# Altium footprint library XS library.PcbLib: 379 footprints (part 15 of 24)
Each footprint in its own frame and in the unit in brackets; x right, y up, seen from the top. Pads: shape width x height; smd on the part's side, far side on the other; paste and mask are expansions set on the pad; w line width, h text height; cw(c..) or ccw(c..) is an arc to the next point about the centre after c.
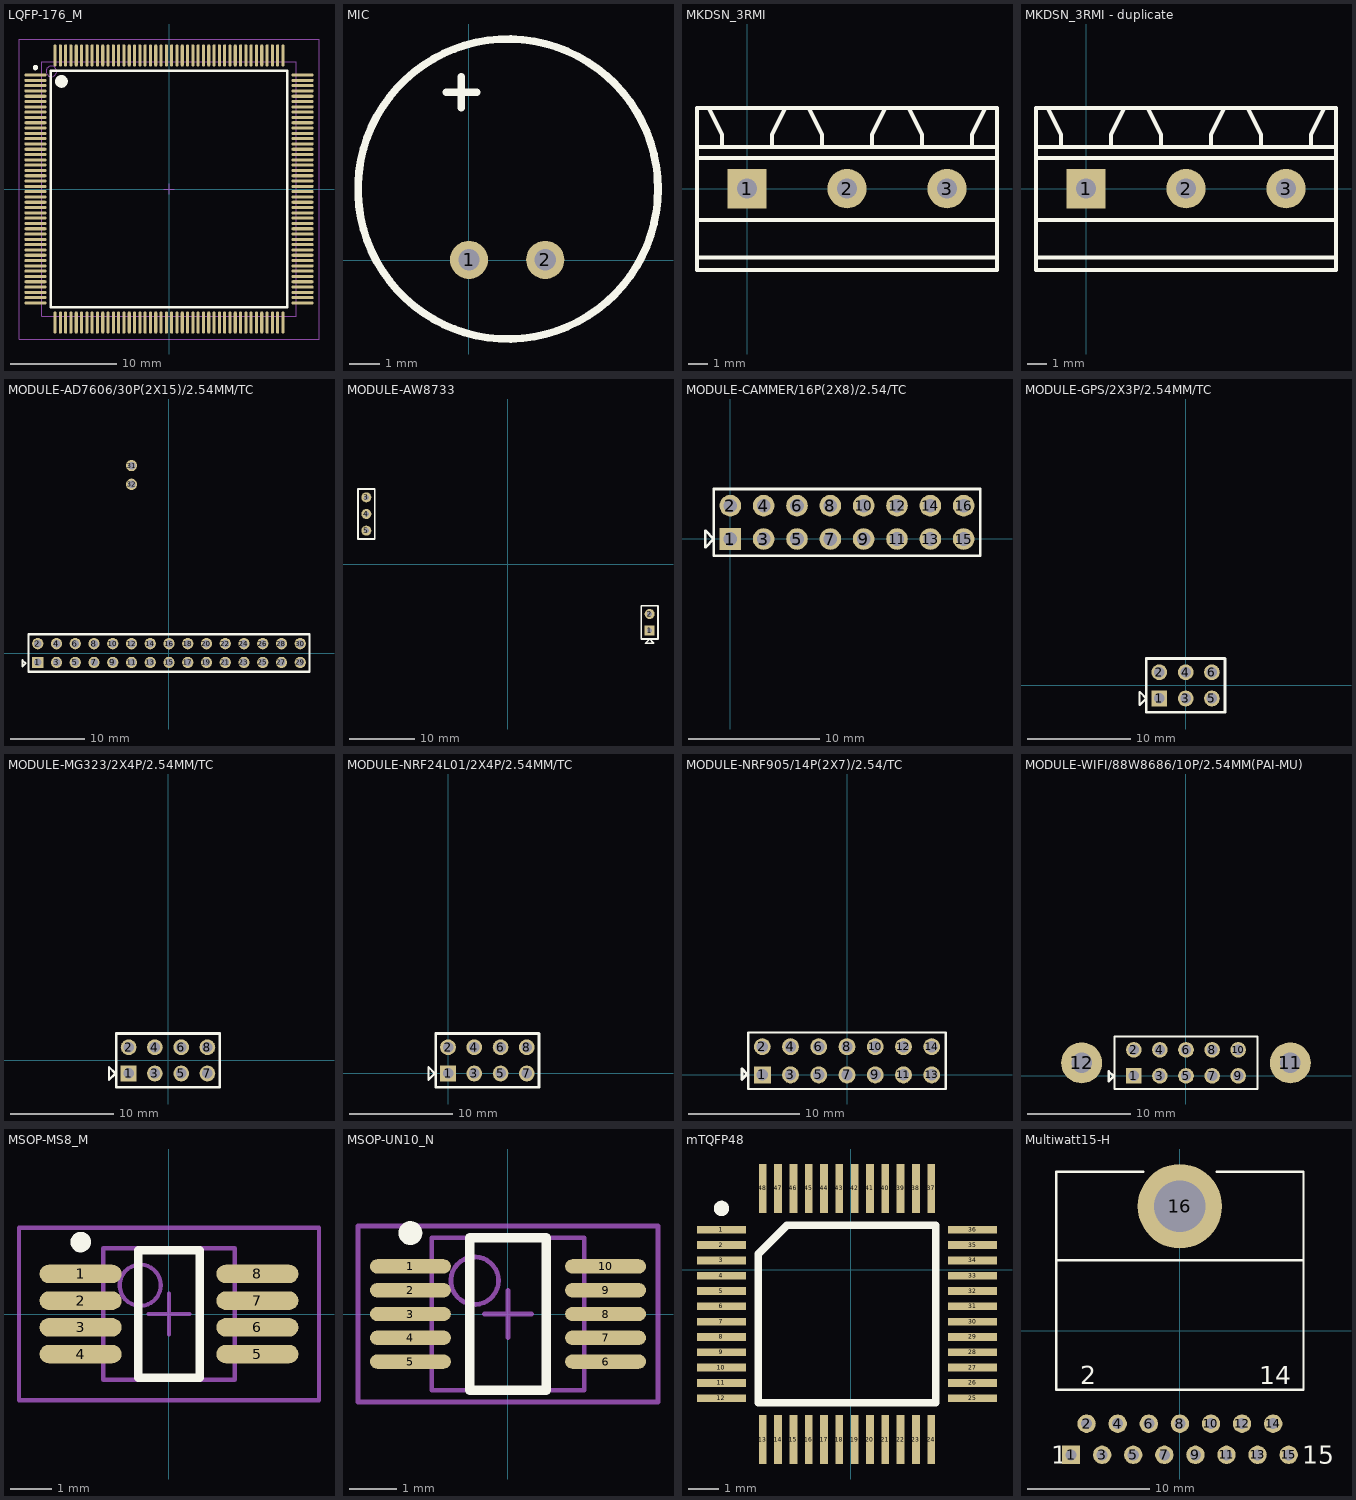
[diagram p14: the footprints below, top view; thin cyan lines are the x and y axes]

## LQFP-176_M [mm] "Thin QFP, 176-Leads, Body 24x24mm, Pitch 0.5mm, IPC Low Density"
height 1.6
pads (176):
  oval 2.1x0.3 smd: 1(-12.6,10.75) 2(-12.6,10.25) 3(-12.6,9.75) 4(-12.6,9.25) 5(-12.6,8.75) 6(-12.6,8.25) 7(-12.6,7.75) 8(-12.6,7.25) 9(-12.6,6.75) 10(-12.6,6.25) 11(-12.6,5.75) 12(-12.6,5.25) 13(-12.6,4.75) 14(-12.6,4.25) 15(-12.6,3.75) 16(-12.6,3.25) 17(-12.6,2.75) 18(-12.6,2.25) 19(-12.6,1.75) 20(-12.6,1.25) 21(-12.6,0.75) 22(-12.6,0.25) 23(-12.6,-0.25) 24(-12.6,-0.75) 25(-12.6,-1.25) 26(-12.6,-1.75) 27(-12.6,-2.25) 28(-12.6,-2.75) 29(-12.6,-3.25) 30(-12.6,-3.75) 31(-12.6,-4.25) 32(-12.6,-4.75) 33(-12.6,-5.25) 34(-12.6,-5.75) 35(-12.6,-6.25) 36(-12.6,-6.75) 37(-12.6,-7.25) 38(-12.6,-7.75) 39(-12.6,-8.25) 40(-12.6,-8.75) 41(-12.6,-9.25) 42(-12.6,-9.75) 43(-12.6,-10.25) 44(-12.6,-10.75) 89(12.6,-10.75) 90(12.6,-10.25) 91(12.6,-9.75) 92(12.6,-9.25) 93(12.6,-8.75) 94(12.6,-8.25) 95(12.6,-7.75) 96(12.6,-7.25) 97(12.6,-6.75) 98(12.6,-6.25) 99(12.6,-5.75) 100(12.6,-5.25) 101(12.6,-4.75) 102(12.6,-4.25) 103(12.6,-3.75) 104(12.6,-3.25) 105(12.6,-2.75) 106(12.6,-2.25) 107(12.6,-1.75) 108(12.6,-1.25) 109(12.6,-0.75) 110(12.6,-0.25) 111(12.6,0.25) 112(12.6,0.75) 113(12.6,1.25) 114(12.6,1.75) 115(12.6,2.25) 116(12.6,2.75) 117(12.6,3.25) 118(12.6,3.75) 119(12.6,4.25) 120(12.6,4.75) 121(12.6,5.25) 122(12.6,5.75) 123(12.6,6.25) 124(12.6,6.75) 125(12.6,7.25) 126(12.6,7.75) 127(12.6,8.25) 128(12.6,8.75) 129(12.6,9.25) 130(12.6,9.75) 131(12.6,10.25) 132(12.6,10.75)
  oval 0.3x2.1 smd: 45(-10.75,-12.6) 46(-10.25,-12.6) 47(-9.75,-12.6) 48(-9.25,-12.6) 49(-8.75,-12.6) 50(-8.25,-12.6) 51(-7.75,-12.6) 52(-7.25,-12.6) 53(-6.75,-12.6) 54(-6.25,-12.6) 55(-5.75,-12.6) 56(-5.25,-12.6) 57(-4.75,-12.6) 58(-4.25,-12.6) 59(-3.75,-12.6) 60(-3.25,-12.6) 61(-2.75,-12.6) 62(-2.25,-12.6) 63(-1.75,-12.6) 64(-1.25,-12.6) 65(-0.75,-12.6) 66(-0.25,-12.6) 67(0.25,-12.6) 68(0.75,-12.6) 69(1.25,-12.6) 70(1.75,-12.6) 71(2.25,-12.6) 72(2.75,-12.6) 73(3.25,-12.6) 74(3.75,-12.6) 75(4.25,-12.6) 76(4.75,-12.6) 77(5.25,-12.6) 78(5.75,-12.6) 79(6.25,-12.6) 80(6.75,-12.6) 81(7.25,-12.6) 82(7.75,-12.6) 83(8.25,-12.6) 84(8.75,-12.6) 85(9.25,-12.6) 86(9.75,-12.6) 87(10.25,-12.6) 88(10.75,-12.6) 133(10.75,12.6) 134(10.25,12.6) 135(9.75,12.6) 136(9.25,12.6) 137(8.75,12.6) 138(8.25,12.6) 139(7.75,12.6) 140(7.25,12.6) 141(6.75,12.6) 142(6.25,12.6) 143(5.75,12.6) 144(5.25,12.6) 145(4.75,12.6) 146(4.25,12.6) 147(3.75,12.6) 148(3.25,12.6) 149(2.75,12.6) 150(2.25,12.6) 151(1.75,12.6) 152(1.25,12.6) 153(0.75,12.6) 154(0.25,12.6) 155(-0.25,12.6) 156(-0.75,12.6) 157(-1.25,12.6) 158(-1.75,12.6) 159(-2.25,12.6) 160(-2.75,12.6) 161(-3.25,12.6) 162(-3.75,12.6) 163(-4.25,12.6) 164(-4.75,12.6) 165(-5.25,12.6) 166(-5.75,12.6) 167(-6.25,12.6) 168(-6.75,12.6) 169(-7.25,12.6) 170(-7.75,12.6) 171(-8.25,12.6) 172(-8.75,12.6) 173(-9.25,12.6) 174(-9.75,12.6) 175(-10.25,12.6) 176(-10.75,12.6)
Top Overlay:
  circle w0.6: c-10.15,10.15 r0.3
  circle w0.25: c-12.6,11.45 r0.125
  lines w0.2: -11.15,-11.15 11.15,-11.15 11.15,11.15 -11.15,11.15 -11.15,-11.15
Mechanical 13:
  circle w0.1: c-11.1,11.1 r0.5
  lines w0.1: -12,-12 12,-12 12,12 -12,12 -12,-12
Mechanical 15:
  lines w0.1: -0.5,0 0.5,0 ; 0,-0.5 0,0.5 ; -14.15,-14.15 14.15,-14.15 14.15,14.15 -14.15,14.15 -14.15,-14.15
3D body: height 1.6, standoff 0, extent -12,-12 12,12

## MIC [mil]
pads (2):
  round 50 hole 28: 1(0.42,0.29) 2(100.42,0.29)
Top Overlay:
  circle w10: c51.58,93.29 r196.85
  lines w10: -29.58,220.29 10.42,220.29 ; -9.58,200.29 -9.58,240.29

## MKDSN_3RMI [mm]
pads (3):
  rect 2x2 hole 1: 1(0,0)
  round 2 hole 1: 2(5.08,0) 3(10.16,0)
Top Overlay:
  lines w0.203: -2.54,-3.514 12.7,-3.514 ; -2.54,-1.609 12.7,-1.609 ; -2.54,1.566 12.7,1.566 ; -2.54,2.117 12.7,2.117 ; -1.905,4.022 -1.27,2.752 -1.27,2.117 ; 1.27,2.117 1.27,2.752 1.905,4.022 ; 3.175,4.022 3.81,2.752 3.81,2.117 ; 6.35,2.117 6.35,2.752 6.985,4.022 ; 8.255,4.022 8.89,2.752 8.89,2.117 ; 11.43,2.117 11.43,2.752 12.065,4.022 ; -2.54,-4.149 12.7,-4.149 12.7,4.106 -2.54,4.106 -2.54,-4.149

## MKDSN_3RMI - duplicate [mm]
pads (3):
  rect 2x2 hole 1: 1(0,0)
  round 2 hole 1: 2(5.08,0) 3(10.16,0)
Top Overlay:
  lines w0.203: -2.54,-3.514 12.7,-3.514 ; -2.54,-1.609 12.7,-1.609 ; -2.54,1.566 12.7,1.566 ; -2.54,2.117 12.7,2.117 ; -1.905,4.022 -1.27,2.752 -1.27,2.117 ; 1.27,2.117 1.27,2.752 1.905,4.022 ; 3.175,4.022 3.81,2.752 3.81,2.117 ; 6.35,2.117 6.35,2.752 6.985,4.022 ; 8.255,4.022 8.89,2.752 8.89,2.117 ; 11.43,2.117 11.43,2.752 12.065,4.022 ; -2.54,-4.149 12.7,-4.149 12.7,4.106 -2.54,4.106 -2.54,-4.149

## MODULE-AD7606/30P(2X15)/2.54MM/TC [mil]
pads (32):
  rect 60x60 hole 40: 1(-700,-50)
  round 60 hole 40: 2(-700,50) 3(-600,-50) 4(-600,50) 5(-500,-50) 6(-500,50) 7(-400,-50) 8(-400,50) 9(-300,-50) 10(-300,50) 11(-200,-50) 12(-200,50) 13(-100,-50) 14(-100,50) 15(0,-50) 16(0,50) 17(100,-50) 18(100,50) 19(200,-50) 20(200,50) 21(300,-50) 22(300,50) 23(400,-50) 24(400,50) 25(500,-50) 26(500,50) 27(600,-50) 28(600,50) 29(700,-50) 30(700,50) 31(-200,1000) 32(-200,900)
Top Overlay:
  lines w10: -781.63,-71.14 -780.22,-68.31 -780.22,-71.61 -764.04,-55.43 -781.63,-37.84 -781.63,-71.14
  lines w12: -750,-100 750,-100 750,100 -750,100 -750,-100
Drill Drawing:
  lines w10: -800,-125 -800,1075 800,1075 800,-125 -800,-125 ; -50,850 -50,1050 750,1050 750,850 -50,850

## MODULE-AW8733 [mil]
pads (5):
  rect 60x60 hole 30: 1(850,-400)
  round 60 hole 30: 2(850,-300) 3(-850,400) 4(-850,300) 5(-850,200)
Top Overlay:
  lines w10: -900,150 -900,450 -800,450 -800,150 -900,150 ; 800,-450 800,-250 900,-250 900,-450 800,-450 ; 825,-475 875,-475 850,-450 825,-475
Drill Drawing:
  lines w10: -800,-550 -800,-600 ; -800,550 -800,600 ; -750,-600 -800,-600 ; -750,600 -800,600 ; -140.24,199.94 ccw(c-89.81,-150) -139.63,-500.03 ; -139.81,-500 370.56,-500 ; -139.81,200 370.56,200 ; 370.4,200.01 cw(c353.89,-150) 371.01,-499.98 ; 750,-600 800,-600 ; 750,600 800,600 ; 800,-550 800,-600 ; 800,550 800,600 ; -800,-600 -800,600 ; -800,-600 800,-600 ; -800,600 800,600 ; 800,-600 800,600

## MODULE-CAMMER/16P(2X8)/2.54/TC [mil]
pads (16):
  rect 65x65 hole 41: 1(0,0)
  round 65 hole 41: 2(0,100) 3(100,0) 4(100,100) 5(200,0) 6(200,100) 7(300,0) 8(300,100) 9(400,0) 10(400,100) 11(500,0) 12(500,100) 13(600,0) 14(600,100) 15(700,0) 16(700,100)
Top Overlay:
  lines w7.87: -75,-25 -75,25 -50,0 -75,-25 ; -50,-50 -50,150 750,150 750,-50 -50,-50
Drill Drawing:
  lines w7.87: -100,-100 -100,150 800,150 800,-100 -100,-100 ; 200,-300 200,-100 500,-100 500,-300 200,-300

## MODULE-GPS/2X3P/2.54MM/TC [mil]
pads (6):
  rect 60x60 hole 40: 1(-100,-50)
  round 60 hole 40: 2(-100,50) 3(0,-50) 4(0,50) 5(100,-50) 6(100,50)
Top Overlay:
  lines w7.87: -175,-75 -175,-25 -150,-50 -175,-75
  lines w10: -150,-102.36 150,-102.36 150,102.36 -150,102.36 -150,-102.36
Drill Drawing:
  lines w10: -324.01,-109.05 -324.01,1032.68 326.77,1032.68 326.77,-109.05 -324.01,-109.05

## MODULE-MG323/2X4P/2.54MM/TC [mil]
pads (8):
  rect 60x60 hole 40: 1(-150,-50)
  round 60 hole 40: 2(-150,50) 3(-50,-50) 4(-50,50) 5(50,-50) 6(50,50) 7(150,-50) 8(150,50)
Top Overlay:
  lines w7.87: -225,-75 -225,-25 -200,-50 -225,-75
  lines w10: -196.46,-102.36 196.46,-102.36 196.46,102.36 -196.46,102.36 -196.46,-102.36
Drill Drawing:
  lines w10: -374.02,-109.05 -374.02,1032.68 381.5,1032.68 381.5,-109.05 -374.02,-109.05

## MODULE-NRF24L01/2X4P/2.54MM/TC [mil]
pads (8):
  rect 60x60 hole 40: 1(0,0)
  round 60 hole 40: 2(0,100) 3(100,0) 4(100,100) 5(200,0) 6(200,100) 7(300,0) 8(300,100)
Top Overlay:
  lines w7.87: -75,-25 -75,25 -50,0 -75,-25
  lines w10: -46.46,-52.36 346.46,-52.36 346.46,152.36 -46.46,152.36 -46.46,-52.36
Drill Drawing:
  lines w10: -59.06,-59.06 -59.06,1082.68 531.5,1082.68 531.5,-59.06 -59.06,-59.06

## MODULE-NRF905/14P(2X7)/2.54/TC [mil]
pads (14):
  rect 60x60 hole 40: 1(-300,0)
  round 60 hole 40: 2(-300,100) 3(-200,0) 4(-200,100) 5(-100,0) 6(-100,100) 7(0,0) 8(0,100) 9(100,0) 10(100,100) 11(200,0) 12(200,100) 13(300,0) 14(300,100)
Top Overlay:
  lines w7.87: -350,-50 -350,150 350,150 350,-50 -350,-50
  lines w10: -372.52,-16.65 -353.33,2.54 -353.33,3.03 -353.82,3.03 -372.52,21.73 -372.52,-16.65
Drill Drawing:
  lines w7.87: -374.02,-50 -374.02,1012.99 374.01,1012.99 374.01,-50 -374.02,-50

## MODULE-WIFI/88W8686/10P/2.54MM(PAI-MU) [mil]
pads (12):
  rect 60x60 hole 40: 1(-200,0)
  round 60 hole 40: 2(-200,100) 3(-100,0) 4(-100,100) 5(0,0) 6(0,100) 7(100,0) 8(100,100) 9(200,0) 10(200,100)
  round 157.48 hole 78.74: 11(400,50) 12(-400,50)
Top Overlay:
  lines w7.87: -274.02,-50.16 274.68,-50.16 274.68,150.35 -274.02,150.35 -274.02,-50.16
  lines w10: -296.65,-20.87 -277.46,-1.67 -277.46,-1.18 -277.95,-1.18 -296.65,17.52 -296.65,-20.87
Drill Drawing:
  lines w7.87: -500,-50 500,-50 500,1100 -500,1100 -500,-50

## MSOP-MS8_M [mm] "TSOP, 8-Leads, Body 3x3mm, Pitch 0.65mm, IPC Low Density"
height 1.1
pads (8):
  oval 2x0.45 smd: 1(-2.15,0.975) 2(-2.15,0.325) 3(-2.15,-0.325) 4(-2.15,-0.975) 5(2.15,-0.975) 6(2.15,-0.325) 7(2.15,0.325) 8(2.15,0.975)
Top Overlay:
  circle w0.25: c-2.15,1.75 r0.125
  lines w0.2: -0.75,-1.55 0.75,-1.55 0.75,1.55 -0.75,1.55 -0.75,-1.55
Mechanical 13:
  circle w0.1: c-0.7,0.7 r0.5
  lines w0.1: -1.6,-1.6 1.6,-1.6 1.6,1.6 -1.6,1.6 -1.6,-1.6
Mechanical 15:
  lines w0.1: -0.5,0 0.5,0 ; 0,-0.5 0,0.5 ; -3.65,-2.1 3.65,-2.1 3.65,2.1 -3.65,2.1 -3.65,-2.1
3D body: height 1.1, standoff 0, extent -1.6,-1.6 1.6,1.6

## MSOP-UN10_N [mm] "TSSOP"
height 1.1
pads (10):
  oval 1.7x0.3 smd: 1(-2.05,1) 2(-2.05,0.5) 3(-2.05,0) 4(-2.05,-0.5) 5(-2.05,-1) 6(2.05,-1) 7(2.05,-0.5) 8(2.05,0) 9(2.05,0.5) 10(2.05,1)
Top Overlay:
  circle w0.25: c-2.05,1.7 r0.125
  lines w0.2: -0.8,-1.6 -0.8,1.6 0.8,1.6 0.8,-1.6 -0.8,-1.6
Mechanical 13:
  circle w0.1: c-0.7,0.7 r0.5
  lines w0.1: -1.6,-1.6 -1.6,1.6 1.6,1.6 1.6,-1.6 -1.6,-1.6
Mechanical 15:
  lines w0.1: -0.5,0 0.5,0 ; 0,-0.5 0,0.5 ; -3.15,-1.85 -3.15,1.85 3.15,1.85 3.15,-1.85 -3.15,-1.85
3D body: height 1.1, standoff 0, extent -1.6,-1.6 1.6,1.6

## mTQFP48 [mm]
pads (48):
  rect 1.6x0.254 smd: 1(-4.223,1.3) 2(-4.223,0.8) 3(-4.223,0.3) 4(-4.223,-0.2) 5(-4.223,-0.7) 6(-4.223,-1.2) 7(-4.223,-1.7) 8(-4.223,-2.2) 9(-4.223,-2.7) 10(-4.223,-3.2) 11(-4.223,-3.7) 12(-4.223,-4.2) 25(3.977,-4.2) 26(3.977,-3.7) 27(3.977,-3.2) 28(3.977,-2.7) 29(3.977,-2.2) 30(3.977,-1.7) 31(3.977,-1.2) 32(3.977,-0.7) 33(3.977,-0.2) 34(3.977,0.3) 35(3.977,0.8) 36(3.977,1.3)
  rect 0.254x1.6 smd: 13(-2.873,-5.55) 14(-2.373,-5.55) 15(-1.873,-5.55) 16(-1.373,-5.55) 17(-0.873,-5.55) 18(-0.373,-5.55) 19(0.127,-5.55) 20(0.627,-5.55) 21(1.127,-5.55) 22(1.627,-5.55) 23(2.127,-5.55) 24(2.627,-5.55) 37(2.627,2.65) 38(2.127,2.65) 39(1.627,2.65) 40(1.127,2.65) 41(0.627,2.65) 42(0.127,2.65) 43(-0.373,2.65) 44(-0.873,2.65) 45(-1.373,2.65) 46(-1.873,2.65) 47(-2.373,2.65) 48(-2.873,2.65)
Top Overlay:
  circle w0.25: c-4.223,2 r0.125
  lines w0.2: -3.023,-4.35 2.777,-4.35 2.777,1.45
  lines w0.254: -3.023,0.508 -2.081,1.45 ; -3.023,0.508 -3.023,-4.35 2.777,-4.35 2.777,1.45 -1.397,1.45 -2.081,1.45 ; -3.023,0.508 -2.081,1.45

## Multiwatt15-H [mm]
height 5
pads (16):
  rect 1.5x1.5 hole 0.9: 1(-8.89,-10.155)
  round 1.5 hole 0.9: 2(-7.62,-7.615) 3(-6.35,-10.155) 4(-5.08,-7.615) 5(-3.81,-10.155) 6(-2.54,-7.615) 7(-1.27,-10.155) 8(0,-7.615) 9(1.27,-10.155) 10(2.54,-7.615) 11(3.81,-10.155) 12(5.08,-7.615) 13(6.35,-10.155) 14(7.62,-7.615) 15(8.89,-10.155)
  round 6.9 hole 4.2: 16(0,10.155)
Top Overlay:
  lines w0.2: -10.1,5.755 10.1,5.755 ; -3,12.955 -10.1,12.955 -10.1,-4.845 10.1,-4.845 10.1,12.955 3,12.955
  text "2" at -8.12,-4.37 h1.5
  text "14" at 6.495,-4.37 h1.5
  text "15" at 10.015,-10.905 h1.5
  text "1" at -10.515,-10.905 h1.5